# Altium integrated library TAJR104K035RNJ.IntLib: 1 symbol
Pins are listed as number, name and electrical type; pins without a type are passive.

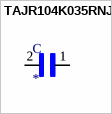
[diagram p0: symbol TAJR104K035RNJ]

## TAJR104K035RNJ
designator C
0.1ÂµF Molded Tantalum Capacitors 35V 0805 _2012 Metric_ 29Ohm; MF: AVX; MP: TAJR104K035RNJ; Price: None; Package: 0805 AVX; Availability: Unavailable; SnapEDA_Link: https://www.snapeda.com/parts/TAJR104K035RNJ/AVX%20/%20Kyocera/view-part/1689905/?ref=snap; Value: *
footprint CAPC2012X140N
pins: 1, 2